# Altium schematic symbol library RC4558P.SchLib: 1 symbol
Pins are listed as number, name and electrical type; pins without a type are passive.

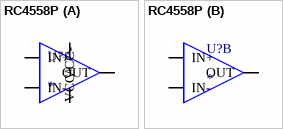
[diagram p0: symbol RC4558P]

## RC4558P
designator U?
part A pins: 1 OUT, 2 IN-, 3 IN+, 4 VCC- (power), 8 VCC+ (power)
part B pins: 5 IN+, 6 IN-, 7 OUT